# Altium footprint library PINPAD.PCBLIB: 151 footprints (part 10 of 10)
Each footprint in its own frame and in the unit in brackets; x right, y up, seen from the top. Pads: shape width x height; smd on the part's side, far side on the other; paste and mask are expansions set on the pad; w line width, h text height; cw(c..) or ccw(c..) is an arc to the next point about the centre after c.
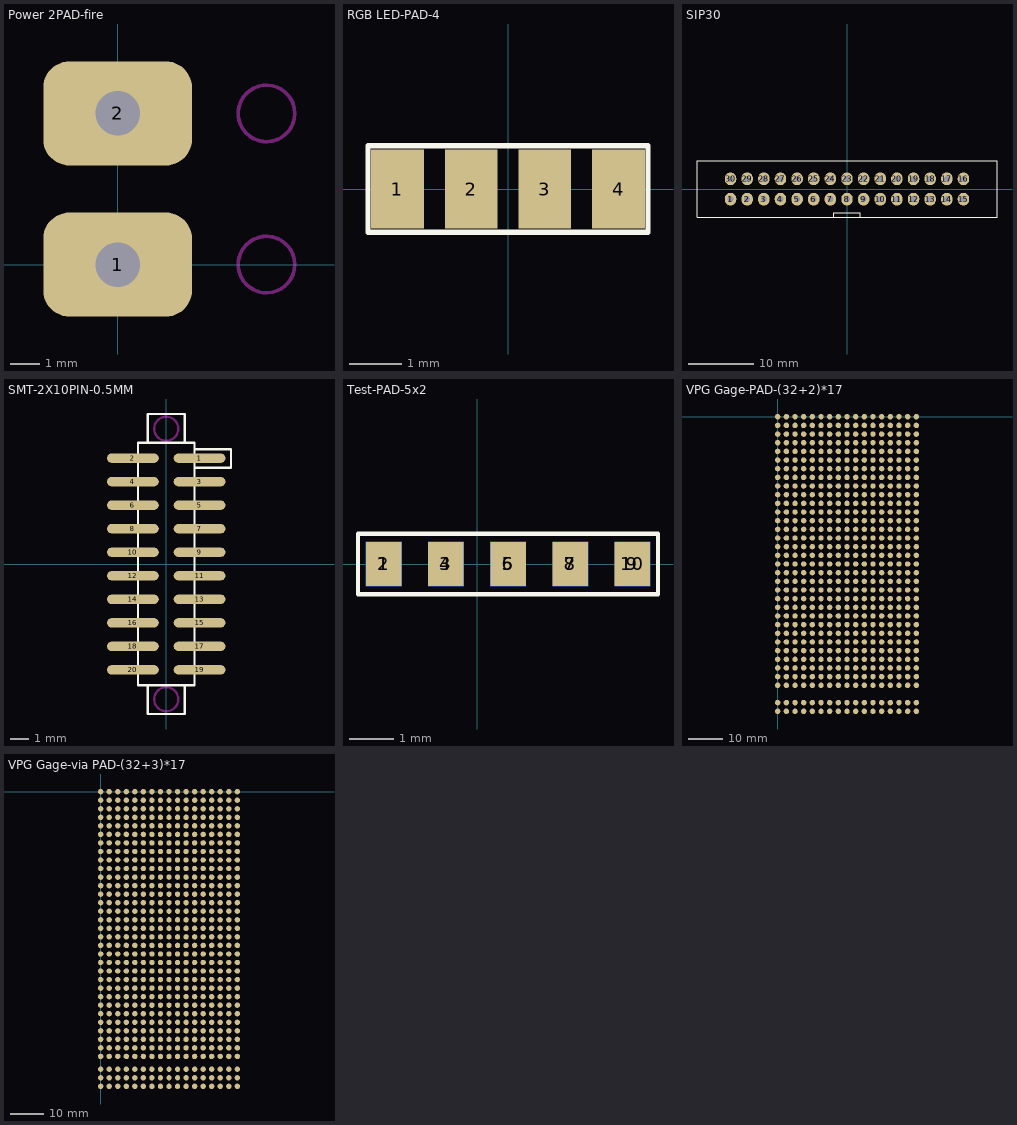
[diagram p9: the footprints below, top view; thin cyan lines are the x and y axes]

## Power 2PAD-fire [mm] "Power 2PAD-fire"
pads (2):
  rrect50% 5x3.5 hole 1.5: 1(0,0) 2(0,5.08)
KeepOutLayer:
  circle w0.127: c5,0 r0.95
  circle w0.127: c5,5.08 r0.95

## RGB LED-PAD-4 [mm] "RGB LED-PAD-4"
pads (4):
  rect 1x1.5 smd: 1(-2.1,0) 2(-0.7,0) 3(0.7,0) 4(2.1,0)
TopOverlay:
  lines w0.1: -2.66,-0.82 2.18,-0.82 2.66,-0.82 2.66,0.82 2.18,0.82 -2.66,0.82 -2.66,-0.82

## SIP30 [mm]
pads (30):
  oval 1.75x1.95 hole 0.9: 1(-17.78,-1.55) 2(-15.24,-1.55) 3(-12.7,-1.55) 4(-10.16,-1.55) 5(-7.62,-1.55) 6(-5.08,-1.55) 7(-2.54,-1.55) 8(0,-1.55) 9(2.54,-1.55) 10(5.08,-1.55) 11(7.62,-1.55) 12(10.16,-1.55) 13(12.7,-1.55) 14(15.24,-1.55) 15(17.78,-1.55) 16(17.78,1.55) 17(15.24,1.55) 18(12.7,1.55) 19(10.16,1.55) 20(7.62,1.55) 21(5.08,1.55) 22(2.54,1.55) 23(0,1.55) 24(-2.54,1.55) 25(-5.08,1.55) 26(-7.62,1.55) 27(-10.16,1.55) 28(-12.7,1.55) 29(-15.24,1.55) 30(-17.78,1.55)
TopOverlay:
  lines w0.127: -2,-4.35 -2,-3.6 2,-3.6 2,-4.35 ; -22.9,-4.35 22.9,-4.35 22.9,4.35 -22.9,4.35 -22.9,-4.35

## SMT-2X10PIN-0.5MM [mm]
pads (20):
  oval 2.8x0.5 smd: 1(1.8,5.715) 2(-1.8,5.715) 3(1.8,4.445) 4(-1.8,4.445) 5(1.8,3.175) 6(-1.8,3.175) 7(1.8,1.905) 8(-1.8,1.905) 9(1.8,0.635) 10(-1.8,0.635) 11(1.8,-0.635) 12(-1.8,-0.635) 13(1.8,-1.905) 14(-1.8,-1.905) 15(1.8,-3.175) 16(-1.8,-3.175) 17(1.8,-4.445) 18(-1.8,-4.445) 19(1.8,-5.715) 20(-1.8,-5.715)
TopOverlay:
  lines w0.127: -1,-6.54 -1,-8.1 1,-8.1 1,-6.54 ; -1,6.54 -1,8.1 1,8.1 1,6.54 ; 1.525,5.2 3.5,5.2 3.5,6.2 1.525,6.2 ; -1.525,-6.54 1.525,-6.54 1.525,6.54 -1.525,6.54 -1.525,-6.54
KeepOutLayer:
  circle w0.127: c0,7.305 r0.65
  circle w0.127: c0,-7.305 r0.65

## Test-PAD-5x2 [mm] "Test-PAD-5x2"
pads (10):
  rect 0.8x1 smd: 1(-2.1,0) 3(-0.7,0) 5(0.7,0) 7(2.1,0) 9(3.5,0)
  rect 0.8x1 smd far side: 2(-2.1,0) 4(-0.7,0) 6(0.7,0) 8(2.1,0) 10(3.5,0)
TopOverlay:
  lines w0.1: -2.68,-0.68 -2.68,0.68 4.075,0.68 4.075,-0.68 -2.68,-0.68

## VPG Gage-PAD-(32+2)*17 [mm] "VPG Gage-PAD-(32+2)*17"
pads (592):
  round 1.6 smd: 0(2.54,-86.36) 0(2.54,-83.82) 0(2.54,-78.74) 0(2.54,-76.2) 0(2.54,-76.2) 0(2.54,-73.66) 0(2.54,-71.12) 0(2.54,-68.58) 0(2.54,-66.04) 0(2.54,-63.5) 0(2.54,-60.96) 0(2.54,-58.42) 0(2.54,-55.88) 0(2.54,-53.34) 0(2.54,-50.8) 0(2.54,-48.26) 0(2.54,-45.72) 0(2.54,-43.18) 0(2.54,-40.64) 0(2.54,-38.1) 0(2.54,-35.56) 0(2.54,-33.02) 0(2.54,-30.48) 0(2.54,-27.94) 0(2.54,-25.4) 0(2.54,-22.86) 0(2.54,-20.32) 0(2.54,-17.78) 0(2.54,-15.24) 0(2.54,-12.7) 0(2.54,-10.16) 0(2.54,-7.62) 0(2.54,-5.08) 0(2.54,-2.54) 0(2.54,0) 0(5.08,-86.36) 0(5.08,-83.82) 0(5.08,-78.74) 0(5.08,-76.2) 0(5.08,-76.2) 0(5.08,-73.66) 0(5.08,-71.12) 0(5.08,-68.58) 0(5.08,-66.04) 0(5.08,-63.5) 0(5.08,-60.96) 0(5.08,-58.42) 0(5.08,-55.88) 0(5.08,-53.34) 0(5.08,-50.8) 0(5.08,-48.26) 0(5.08,-45.72) 0(5.08,-43.18) 0(5.08,-40.64) 0(5.08,-38.1) 0(5.08,-35.56) 0(5.08,-33.02) 0(5.08,-30.48) 0(5.08,-27.94) 0(5.08,-25.4) 0(5.08,-22.86) 0(5.08,-20.32) 0(5.08,-17.78) 0(5.08,-15.24) 0(5.08,-12.7) 0(5.08,-10.16) 0(5.08,-7.62) 0(5.08,-5.08) 0(5.08,-2.54) 0(5.08,0) 0(7.62,-86.36) 0(7.62,-83.82) 0(7.62,-78.74) 0(7.62,-76.2) 0(7.62,-76.2) 0(7.62,-73.66) 0(7.62,-71.12) 0(7.62,-68.58) 0(7.62,-66.04) 0(7.62,-63.5) 0(7.62,-60.96) 0(7.62,-58.42) 0(7.62,-55.88) 0(7.62,-53.34) 0(7.62,-50.8) 0(7.62,-48.26) 0(7.62,-45.72) 0(7.62,-43.18) 0(7.62,-40.64) 0(7.62,-38.1) 0(7.62,-35.56) 0(7.62,-33.02) 0(7.62,-30.48) 0(7.62,-27.94) 0(7.62,-25.4) 0(7.62,-22.86) 0(7.62,-20.32) 0(7.62,-17.78) 0(7.62,-15.24) 0(7.62,-12.7) 0(7.62,-10.16) 0(7.62,-7.62) 0(7.62,-5.08) 0(7.62,-2.54) 0(7.62,0) 0(10.16,-86.36) 0(10.16,-83.82) 0(10.16,-78.74) 0(10.16,-76.2) 0(10.16,-76.2) 0(10.16,-73.66) 0(10.16,-71.12) 0(10.16,-68.58) 0(10.16,-66.04) 0(10.16,-63.5) 0(10.16,-60.96) 0(10.16,-58.42) 0(10.16,-55.88) 0(10.16,-53.34) 0(10.16,-50.8) 0(10.16,-48.26) 0(10.16,-45.72) 0(10.16,-43.18) 0(10.16,-40.64) 0(10.16,-38.1) 0(10.16,-35.56) 0(10.16,-33.02) 0(10.16,-30.48) 0(10.16,-27.94) 0(10.16,-25.4) 0(10.16,-22.86) 0(10.16,-20.32) 0(10.16,-17.78) 0(10.16,-15.24) 0(10.16,-12.7) 0(10.16,-10.16) 0(10.16,-7.62) 0(10.16,-5.08) 0(10.16,-2.54) 0(10.16,0) 0(12.7,-86.36) 0(12.7,-83.82) 0(12.7,-78.74) 0(12.7,-76.2) 0(12.7,-76.2) 0(12.7,-73.66) 0(12.7,-71.12) 0(12.7,-68.58) 0(12.7,-66.04) 0(12.7,-63.5) 0(12.7,-60.96) 0(12.7,-58.42) 0(12.7,-55.88) 0(12.7,-53.34) 0(12.7,-50.8) 0(12.7,-48.26) 0(12.7,-45.72) 0(12.7,-43.18) 0(12.7,-40.64) 0(12.7,-38.1) 0(12.7,-35.56) 0(12.7,-33.02) 0(12.7,-30.48) 0(12.7,-27.94) 0(12.7,-25.4) 0(12.7,-22.86) 0(12.7,-20.32) 0(12.7,-17.78) 0(12.7,-15.24) 0(12.7,-12.7) 0(12.7,-10.16) 0(12.7,-7.62) 0(12.7,-5.08) 0(12.7,-2.54) 0(12.7,0) 0(15.24,-86.36) 0(15.24,-83.82) 0(15.24,-78.74) 0(15.24,-76.2) 0(15.24,-76.2) 0(15.24,-73.66) 0(15.24,-71.12) 0(15.24,-68.58) 0(15.24,-66.04) 0(15.24,-63.5) 0(15.24,-60.96) 0(15.24,-58.42) 0(15.24,-55.88) 0(15.24,-53.34) 0(15.24,-50.8) 0(15.24,-48.26) 0(15.24,-45.72) 0(15.24,-43.18) 0(15.24,-40.64) 0(15.24,-38.1) 0(15.24,-35.56) 0(15.24,-33.02) 0(15.24,-30.48) 0(15.24,-27.94) 0(15.24,-25.4) 0(15.24,-22.86) 0(15.24,-20.32) 0(15.24,-17.78) 0(15.24,-15.24) 0(15.24,-12.7) 0(15.24,-10.16) 0(15.24,-7.62) 0(15.24,-5.08) 0(15.24,-2.54) 0(15.24,0) 0(17.78,-86.36) 0(17.78,-83.82) 0(17.78,-78.74) 0(17.78,-76.2) 0(17.78,-76.2) 0(17.78,-73.66) 0(17.78,-71.12) 0(17.78,-68.58) 0(17.78,-66.04) 0(17.78,-63.5) 0(17.78,-60.96) 0(17.78,-58.42) 0(17.78,-55.88) 0(17.78,-53.34) 0(17.78,-50.8) 0(17.78,-48.26) 0(17.78,-45.72) 0(17.78,-43.18) 0(17.78,-40.64) 0(17.78,-38.1) 0(17.78,-35.56) 0(17.78,-33.02) 0(17.78,-30.48) 0(17.78,-27.94) 0(17.78,-25.4) 0(17.78,-22.86) 0(17.78,-20.32) 0(17.78,-17.78) 0(17.78,-15.24) 0(17.78,-12.7) 0(17.78,-10.16) 0(17.78,-7.62) 0(17.78,-5.08) 0(17.78,-2.54) 0(17.78,0) 0(20.32,-86.36) 0(20.32,-83.82) 0(20.32,-78.74) 0(20.32,-76.2) 0(20.32,-76.2) 0(20.32,-73.66) 0(20.32,-71.12) 0(20.32,-68.58) 0(20.32,-66.04) 0(20.32,-63.5) 0(20.32,-60.96) 0(20.32,-58.42) 0(20.32,-55.88) 0(20.32,-53.34) 0(20.32,-50.8) 0(20.32,-48.26) 0(20.32,-45.72) 0(20.32,-43.18) 0(20.32,-40.64) 0(20.32,-38.1) 0(20.32,-35.56) 0(20.32,-33.02) 0(20.32,-30.48) 0(20.32,-27.94) 0(20.32,-25.4) 0(20.32,-22.86) 0(20.32,-20.32) 0(20.32,-17.78) 0(20.32,-15.24) 0(20.32,-12.7) 0(20.32,-10.16) 0(20.32,-7.62) 0(20.32,-5.08) 0(20.32,-2.54) 0(20.32,0) 0(22.86,-86.36) 0(22.86,-83.82) 0(22.86,-78.74) 0(22.86,-76.2) 0(22.86,-76.2) 0(22.86,-73.66) 0(22.86,-71.12) 0(22.86,-68.58) 0(22.86,-66.04) 0(22.86,-63.5) 0(22.86,-60.96) 0(22.86,-58.42) 0(22.86,-55.88) 0(22.86,-53.34) 0(22.86,-50.8) 0(22.86,-48.26) 0(22.86,-45.72) 0(22.86,-43.18) 0(22.86,-40.64) 0(22.86,-38.1) 0(22.86,-35.56) 0(22.86,-33.02) 0(22.86,-30.48) 0(22.86,-27.94) 0(22.86,-25.4) 0(22.86,-22.86) 0(22.86,-20.32) 0(22.86,-17.78) 0(22.86,-15.24) 0(22.86,-12.7) 0(22.86,-10.16) 0(22.86,-7.62) 0(22.86,-5.08) 0(22.86,-2.54) 0(22.86,0) 0(25.4,-86.36) 0(25.4,-83.82) 0(25.4,-78.74) 0(25.4,-76.2) 0(25.4,-76.2) 0(25.4,-73.66) 0(25.4,-71.12) 0(25.4,-68.58) 0(25.4,-66.04) 0(25.4,-63.5) 0(25.4,-60.96) 0(25.4,-58.42) 0(25.4,-55.88) 0(25.4,-53.34) 0(25.4,-50.8) 0(25.4,-48.26) 0(25.4,-45.72) 0(25.4,-43.18) 0(25.4,-40.64) 0(25.4,-38.1) 0(25.4,-35.56) 0(25.4,-33.02) 0(25.4,-30.48) 0(25.4,-27.94) 0(25.4,-25.4) 0(25.4,-22.86) 0(25.4,-20.32) 0(25.4,-17.78) 0(25.4,-15.24) 0(25.4,-12.7) 0(25.4,-10.16) 0(25.4,-7.62) 0(25.4,-5.08) 0(25.4,-2.54) 0(25.4,0) 0(27.94,-86.36) 0(27.94,-83.82) 0(27.94,-78.74) 0(27.94,-76.2) 0(27.94,-76.2) 0(27.94,-73.66) 0(27.94,-71.12) 0(27.94,-68.58) 0(27.94,-66.04) 0(27.94,-63.5) 0(27.94,-60.96) 0(27.94,-58.42) 0(27.94,-55.88) 0(27.94,-53.34) 0(27.94,-50.8) 0(27.94,-48.26) 0(27.94,-45.72) 0(27.94,-43.18) 0(27.94,-40.64) 0(27.94,-38.1) 0(27.94,-35.56) 0(27.94,-33.02) 0(27.94,-30.48) 0(27.94,-27.94) 0(27.94,-25.4) 0(27.94,-22.86) 0(27.94,-20.32) 0(27.94,-17.78) 0(27.94,-15.24) 0(27.94,-12.7) 0(27.94,-10.16) 0(27.94,-7.62) 0(27.94,-5.08) 0(27.94,-2.54) 0(27.94,0) 0(30.48,-86.36) 0(30.48,-83.82) 0(30.48,-78.74) 0(30.48,-76.2) 0(30.48,-76.2) 0(30.48,-73.66) 0(30.48,-71.12) 0(30.48,-68.58) 0(30.48,-66.04) 0(30.48,-63.5) 0(30.48,-60.96) 0(30.48,-58.42) 0(30.48,-55.88) 0(30.48,-53.34) 0(30.48,-50.8) 0(30.48,-48.26) 0(30.48,-45.72) 0(30.48,-43.18) 0(30.48,-40.64) 0(30.48,-38.1) 0(30.48,-35.56) 0(30.48,-33.02) 0(30.48,-30.48) 0(30.48,-27.94) 0(30.48,-25.4) 0(30.48,-22.86) 0(30.48,-20.32) 0(30.48,-17.78) 0(30.48,-15.24) 0(30.48,-12.7) 0(30.48,-10.16) 0(30.48,-7.62) 0(30.48,-5.08) 0(30.48,-2.54) 0(30.48,0) 0(33.02,-86.36) 0(33.02,-83.82) 0(33.02,-78.74) 0(33.02,-76.2) 0(33.02,-76.2) 0(33.02,-73.66) 0(33.02,-71.12) 0(33.02,-68.58) 0(33.02,-66.04) 0(33.02,-63.5) 0(33.02,-60.96) 0(33.02,-58.42) 0(33.02,-55.88) 0(33.02,-53.34) 0(33.02,-50.8) 0(33.02,-48.26) 0(33.02,-45.72) 0(33.02,-43.18) 0(33.02,-40.64) 0(33.02,-38.1) 0(33.02,-35.56) 0(33.02,-33.02) 0(33.02,-30.48) 0(33.02,-27.94) 0(33.02,-25.4) 0(33.02,-22.86) 0(33.02,-20.32) 0(33.02,-17.78) 0(33.02,-15.24) 0(33.02,-12.7) 0(33.02,-10.16) 0(33.02,-7.62) 0(33.02,-5.08) 0(33.02,-2.54) 0(33.02,0) 0(35.56,-86.36) 0(35.56,-83.82) 0(35.56,-78.74) 0(35.56,-76.2) 0(35.56,-76.2) 0(35.56,-73.66) 0(35.56,-71.12) 0(35.56,-68.58) 0(35.56,-66.04) 0(35.56,-63.5) 0(35.56,-60.96) 0(35.56,-58.42) 0(35.56,-55.88) 0(35.56,-53.34) 0(35.56,-50.8) 0(35.56,-48.26) 0(35.56,-45.72) 0(35.56,-43.18) 0(35.56,-40.64) 0(35.56,-38.1) 0(35.56,-35.56) 0(35.56,-33.02) 0(35.56,-30.48) 0(35.56,-27.94) 0(35.56,-25.4) 0(35.56,-22.86) 0(35.56,-20.32) 0(35.56,-17.78) 0(35.56,-15.24) 0(35.56,-12.7) 0(35.56,-10.16) 0(35.56,-7.62) 0(35.56,-5.08) 0(35.56,-2.54) 0(35.56,0) 0(38.1,-86.36) 0(38.1,-83.82) 0(38.1,-78.74) 0(38.1,-76.2) 0(38.1,-73.66) 0(38.1,-71.12) 0(38.1,-68.58) 0(38.1,-66.04) 0(38.1,-63.5) 0(38.1,-60.96) 0(38.1,-58.42) 0(38.1,-55.88) 0(38.1,-53.34) 0(38.1,-50.8) 0(38.1,-48.26) 0(38.1,-45.72) 0(38.1,-43.18) 0(38.1,-40.64) 0(38.1,-38.1) 0(38.1,-35.56) 0(38.1,-33.02) 0(38.1,-30.48) 0(38.1,-27.94) 0(38.1,-25.4) 0(38.1,-22.86) 0(38.1,-20.32) 0(38.1,-17.78) 0(38.1,-15.24) 0(38.1,-12.7) 0(38.1,-10.16) 0(38.1,-7.62) 0(38.1,-5.08) 0(38.1,-2.54) 0(38.1,0) 1(0,0) 2(0,-2.54) 3(0,-5.08) 4(0,-7.62) 5(0,-10.16) 6(0,-12.7) 7(0,-15.24) 8(0,-17.78) 9(0,-20.32) 10(0,-22.86) 11(0,-25.4) 12(0,-27.94) 13(0,-30.48) 14(0,-33.02) 15(0,-35.56) 16(0,-38.1) 17(0,-40.64) 17(40.64,-86.36) 17(40.64,-83.82) 17(40.64,-78.74) 17(40.64,-76.2) 17(40.64,-73.66) 17(40.64,-71.12) 17(40.64,-68.58) 17(40.64,-66.04) 17(40.64,-63.5) 17(40.64,-60.96) 17(40.64,-58.42) 17(40.64,-55.88) 17(40.64,-53.34) 17(40.64,-50.8) 17(40.64,-48.26) 17(40.64,-45.72) 17(40.64,-43.18) 17(40.64,-40.64) 17(40.64,-38.1) 17(40.64,-35.56) 17(40.64,-33.02) 17(40.64,-30.48) 17(40.64,-27.94) 17(40.64,-25.4) 17(40.64,-22.86) 17(40.64,-20.32) 17(40.64,-17.78) 17(40.64,-15.24) 17(40.64,-12.7) 17(40.64,-10.16) 17(40.64,-7.62) 17(40.64,-5.08) 17(40.64,-2.54) 17(40.64,0) 18(0,-43.18) 19(0,-45.72) 20(0,-48.26) 21(0,-50.8) 22(0,-53.34) 23(0,-55.88) 24(0,-58.42) 25(0,-60.96) 26(0,-63.5) 27(0,-66.04) 28(0,-68.58) 29(0,-71.12) 30(0,-73.66) 31(0,-76.2) 32(0,-78.74) 33(0,-83.82) 34(0,-86.36)

## VPG Gage-via PAD-(32+3)*17 [mm] "VPG Gage-via PAD-(32+3)*17"
pads (609):
  round 1.6 smd: 0(2.54,-87.63) 0(2.54,-85.09) 0(2.54,-82.55) 0(2.54,-78.74) 0(2.54,-76.2) 0(2.54,-76.2) 0(2.54,-73.66) 0(2.54,-71.12) 0(2.54,-68.58) 0(2.54,-66.04) 0(2.54,-63.5) 0(2.54,-60.96) 0(2.54,-58.42) 0(2.54,-55.88) 0(2.54,-53.34) 0(2.54,-50.8) 0(2.54,-48.26) 0(2.54,-45.72) 0(2.54,-43.18) 0(2.54,-40.64) 0(2.54,-38.1) 0(2.54,-35.56) 0(2.54,-33.02) 0(2.54,-30.48) 0(2.54,-27.94) 0(2.54,-25.4) 0(2.54,-22.86) 0(2.54,-20.32) 0(2.54,-17.78) 0(2.54,-15.24) 0(2.54,-12.7) 0(2.54,-10.16) 0(2.54,-7.62) 0(2.54,-5.08) 0(2.54,-2.54) 0(2.54,0) 0(5.08,-87.63) 0(5.08,-85.09) 0(5.08,-82.55) 0(5.08,-78.74) 0(5.08,-76.2) 0(5.08,-76.2) 0(5.08,-73.66) 0(5.08,-71.12) 0(5.08,-68.58) 0(5.08,-66.04) 0(5.08,-63.5) 0(5.08,-60.96) 0(5.08,-58.42) 0(5.08,-55.88) 0(5.08,-53.34) 0(5.08,-50.8) 0(5.08,-48.26) 0(5.08,-45.72) 0(5.08,-43.18) 0(5.08,-40.64) 0(5.08,-38.1) 0(5.08,-35.56) 0(5.08,-33.02) 0(5.08,-30.48) 0(5.08,-27.94) 0(5.08,-25.4) 0(5.08,-22.86) 0(5.08,-20.32) 0(5.08,-17.78) 0(5.08,-15.24) 0(5.08,-12.7) 0(5.08,-10.16) 0(5.08,-7.62) 0(5.08,-5.08) 0(5.08,-2.54) 0(5.08,0) 0(7.62,-87.63) 0(7.62,-85.09) 0(7.62,-82.55) 0(7.62,-78.74) 0(7.62,-76.2) 0(7.62,-76.2) 0(7.62,-73.66) 0(7.62,-71.12) 0(7.62,-68.58) 0(7.62,-66.04) 0(7.62,-63.5) 0(7.62,-60.96) 0(7.62,-58.42) 0(7.62,-55.88) 0(7.62,-53.34) 0(7.62,-50.8) 0(7.62,-48.26) 0(7.62,-45.72) 0(7.62,-43.18) 0(7.62,-40.64) 0(7.62,-38.1) 0(7.62,-35.56) 0(7.62,-33.02) 0(7.62,-30.48) 0(7.62,-27.94) 0(7.62,-25.4) 0(7.62,-22.86) 0(7.62,-20.32) 0(7.62,-17.78) 0(7.62,-15.24) 0(7.62,-12.7) 0(7.62,-10.16) 0(7.62,-7.62) 0(7.62,-5.08) 0(7.62,-2.54) 0(7.62,0) 0(10.16,-87.63) 0(10.16,-85.09) 0(10.16,-82.55) 0(10.16,-78.74) 0(10.16,-76.2) 0(10.16,-76.2) 0(10.16,-73.66) 0(10.16,-71.12) 0(10.16,-68.58) 0(10.16,-66.04) 0(10.16,-63.5) 0(10.16,-60.96) 0(10.16,-58.42) 0(10.16,-55.88) 0(10.16,-53.34) 0(10.16,-50.8) 0(10.16,-48.26) 0(10.16,-45.72) 0(10.16,-43.18) 0(10.16,-40.64) 0(10.16,-38.1) 0(10.16,-35.56) 0(10.16,-33.02) 0(10.16,-30.48) 0(10.16,-27.94) 0(10.16,-25.4) 0(10.16,-22.86) 0(10.16,-20.32) 0(10.16,-17.78) 0(10.16,-15.24) 0(10.16,-12.7) 0(10.16,-10.16) 0(10.16,-7.62) 0(10.16,-5.08) 0(10.16,-2.54) 0(10.16,0) 0(12.7,-87.63) 0(12.7,-85.09) 0(12.7,-82.55) 0(12.7,-78.74) 0(12.7,-76.2) 0(12.7,-76.2) 0(12.7,-73.66) 0(12.7,-71.12) 0(12.7,-68.58) 0(12.7,-66.04) 0(12.7,-63.5) 0(12.7,-60.96) 0(12.7,-58.42) 0(12.7,-55.88) 0(12.7,-53.34) 0(12.7,-50.8) 0(12.7,-48.26) 0(12.7,-45.72) 0(12.7,-43.18) 0(12.7,-40.64) 0(12.7,-38.1) 0(12.7,-35.56) 0(12.7,-33.02) 0(12.7,-30.48) 0(12.7,-27.94) 0(12.7,-25.4) 0(12.7,-22.86) 0(12.7,-20.32) 0(12.7,-17.78) 0(12.7,-15.24) 0(12.7,-12.7) 0(12.7,-10.16) 0(12.7,-7.62) 0(12.7,-5.08) 0(12.7,-2.54) 0(12.7,0) 0(15.24,-87.63) 0(15.24,-85.09) 0(15.24,-82.55) 0(15.24,-78.74) 0(15.24,-76.2) 0(15.24,-76.2) 0(15.24,-73.66) 0(15.24,-71.12) 0(15.24,-68.58) 0(15.24,-66.04) 0(15.24,-63.5) 0(15.24,-60.96) 0(15.24,-58.42) 0(15.24,-55.88) 0(15.24,-53.34) 0(15.24,-50.8) 0(15.24,-48.26) 0(15.24,-45.72) 0(15.24,-43.18) 0(15.24,-40.64) 0(15.24,-38.1) 0(15.24,-35.56) 0(15.24,-33.02) 0(15.24,-30.48) 0(15.24,-27.94) 0(15.24,-25.4) 0(15.24,-22.86) 0(15.24,-20.32) 0(15.24,-17.78) 0(15.24,-15.24) 0(15.24,-12.7) 0(15.24,-10.16) 0(15.24,-7.62) 0(15.24,-5.08) 0(15.24,-2.54) 0(15.24,0) 0(17.78,-87.63) 0(17.78,-85.09) 0(17.78,-82.55) 0(17.78,-78.74) 0(17.78,-76.2) 0(17.78,-76.2) 0(17.78,-73.66) 0(17.78,-71.12) 0(17.78,-68.58) 0(17.78,-66.04) 0(17.78,-63.5) 0(17.78,-60.96) 0(17.78,-58.42) 0(17.78,-55.88) 0(17.78,-53.34) 0(17.78,-50.8) 0(17.78,-48.26) 0(17.78,-45.72) 0(17.78,-43.18) 0(17.78,-40.64) 0(17.78,-38.1) 0(17.78,-35.56) 0(17.78,-33.02) 0(17.78,-30.48) 0(17.78,-27.94) 0(17.78,-25.4) 0(17.78,-22.86) 0(17.78,-20.32) 0(17.78,-17.78) 0(17.78,-15.24) 0(17.78,-12.7) 0(17.78,-10.16) 0(17.78,-7.62) 0(17.78,-5.08) 0(17.78,-2.54) 0(17.78,0) 0(20.32,-87.63) 0(20.32,-85.09) 0(20.32,-82.55) 0(20.32,-78.74) 0(20.32,-76.2) 0(20.32,-76.2) 0(20.32,-73.66) 0(20.32,-71.12) 0(20.32,-68.58) 0(20.32,-66.04) 0(20.32,-63.5) 0(20.32,-60.96) 0(20.32,-58.42) 0(20.32,-55.88) 0(20.32,-53.34) 0(20.32,-50.8) 0(20.32,-48.26) 0(20.32,-45.72) 0(20.32,-43.18) 0(20.32,-40.64) 0(20.32,-38.1) 0(20.32,-35.56) 0(20.32,-33.02) 0(20.32,-30.48) 0(20.32,-27.94) 0(20.32,-25.4) 0(20.32,-22.86) 0(20.32,-20.32) 0(20.32,-17.78) 0(20.32,-15.24) 0(20.32,-12.7) 0(20.32,-10.16) 0(20.32,-7.62) 0(20.32,-5.08) 0(20.32,-2.54) 0(20.32,0) 0(22.86,-87.63) 0(22.86,-85.09) 0(22.86,-82.55) 0(22.86,-78.74) 0(22.86,-76.2) 0(22.86,-76.2) 0(22.86,-73.66) 0(22.86,-71.12) 0(22.86,-68.58) 0(22.86,-66.04) 0(22.86,-63.5) 0(22.86,-60.96) 0(22.86,-58.42) 0(22.86,-55.88) 0(22.86,-53.34) 0(22.86,-50.8) 0(22.86,-48.26) 0(22.86,-45.72) 0(22.86,-43.18) 0(22.86,-40.64) 0(22.86,-38.1) 0(22.86,-35.56) 0(22.86,-33.02) 0(22.86,-30.48) 0(22.86,-27.94) 0(22.86,-25.4) 0(22.86,-22.86) 0(22.86,-20.32) 0(22.86,-17.78) 0(22.86,-15.24) 0(22.86,-12.7) 0(22.86,-10.16) 0(22.86,-7.62) 0(22.86,-5.08) 0(22.86,-2.54) 0(22.86,0) 0(25.4,-87.63) 0(25.4,-85.09) 0(25.4,-82.55) 0(25.4,-78.74) 0(25.4,-76.2) 0(25.4,-76.2) 0(25.4,-73.66) 0(25.4,-71.12) 0(25.4,-68.58) 0(25.4,-66.04) 0(25.4,-63.5) 0(25.4,-60.96) 0(25.4,-58.42) 0(25.4,-55.88) 0(25.4,-53.34) 0(25.4,-50.8) 0(25.4,-48.26) 0(25.4,-45.72) 0(25.4,-43.18) 0(25.4,-40.64) 0(25.4,-38.1) 0(25.4,-35.56) 0(25.4,-33.02) 0(25.4,-30.48) 0(25.4,-27.94) 0(25.4,-25.4) 0(25.4,-22.86) 0(25.4,-20.32) 0(25.4,-17.78) 0(25.4,-15.24) 0(25.4,-12.7) 0(25.4,-10.16) 0(25.4,-7.62) 0(25.4,-5.08) 0(25.4,-2.54) 0(25.4,0) 0(27.94,-87.63) 0(27.94,-85.09) 0(27.94,-82.55) 0(27.94,-78.74) 0(27.94,-76.2) 0(27.94,-76.2) 0(27.94,-73.66) 0(27.94,-71.12) 0(27.94,-68.58) 0(27.94,-66.04) 0(27.94,-63.5) 0(27.94,-60.96) 0(27.94,-58.42) 0(27.94,-55.88) 0(27.94,-53.34) 0(27.94,-50.8) 0(27.94,-48.26) 0(27.94,-45.72) 0(27.94,-43.18) 0(27.94,-40.64) 0(27.94,-38.1) 0(27.94,-35.56) 0(27.94,-33.02) 0(27.94,-30.48) 0(27.94,-27.94) 0(27.94,-25.4) 0(27.94,-22.86) 0(27.94,-20.32) 0(27.94,-17.78) 0(27.94,-15.24) 0(27.94,-12.7) 0(27.94,-10.16) 0(27.94,-7.62) 0(27.94,-5.08) 0(27.94,-2.54) 0(27.94,0) 0(30.48,-87.63) 0(30.48,-85.09) 0(30.48,-82.55) 0(30.48,-78.74) 0(30.48,-76.2) 0(30.48,-76.2) 0(30.48,-73.66) 0(30.48,-71.12) 0(30.48,-68.58) 0(30.48,-66.04) 0(30.48,-63.5) 0(30.48,-60.96) 0(30.48,-58.42) 0(30.48,-55.88) 0(30.48,-53.34) 0(30.48,-50.8) 0(30.48,-48.26) 0(30.48,-45.72) 0(30.48,-43.18) 0(30.48,-40.64) 0(30.48,-38.1) 0(30.48,-35.56) 0(30.48,-33.02) 0(30.48,-30.48) 0(30.48,-27.94) 0(30.48,-25.4) 0(30.48,-22.86) 0(30.48,-20.32) 0(30.48,-17.78) 0(30.48,-15.24) 0(30.48,-12.7) 0(30.48,-10.16) 0(30.48,-7.62) 0(30.48,-5.08) 0(30.48,-2.54) 0(30.48,0) 0(33.02,-87.63) 0(33.02,-85.09) 0(33.02,-82.55) 0(33.02,-78.74) 0(33.02,-76.2) 0(33.02,-76.2) 0(33.02,-73.66) 0(33.02,-71.12) 0(33.02,-68.58) 0(33.02,-66.04) 0(33.02,-63.5) 0(33.02,-60.96) 0(33.02,-58.42) 0(33.02,-55.88) 0(33.02,-53.34) 0(33.02,-50.8) 0(33.02,-48.26) 0(33.02,-45.72) 0(33.02,-43.18) 0(33.02,-40.64) 0(33.02,-38.1) 0(33.02,-35.56) 0(33.02,-33.02) 0(33.02,-30.48) 0(33.02,-27.94) 0(33.02,-25.4) 0(33.02,-22.86) 0(33.02,-20.32) 0(33.02,-17.78) 0(33.02,-15.24) 0(33.02,-12.7) 0(33.02,-10.16) 0(33.02,-7.62) 0(33.02,-5.08) 0(33.02,-2.54) 0(33.02,0) 0(35.56,-87.63) 0(35.56,-85.09) 0(35.56,-82.55) 0(35.56,-78.74) 0(35.56,-76.2) 0(35.56,-76.2) 0(35.56,-73.66) 0(35.56,-71.12) 0(35.56,-68.58) 0(35.56,-66.04) 0(35.56,-63.5) 0(35.56,-60.96) 0(35.56,-58.42) 0(35.56,-55.88) 0(35.56,-53.34) 0(35.56,-50.8) 0(35.56,-48.26) 0(35.56,-45.72) 0(35.56,-43.18) 0(35.56,-40.64) 0(35.56,-38.1) 0(35.56,-35.56) 0(35.56,-33.02) 0(35.56,-30.48) 0(35.56,-27.94) 0(35.56,-25.4) 0(35.56,-22.86) 0(35.56,-20.32) 0(35.56,-17.78) 0(35.56,-15.24) 0(35.56,-12.7) 0(35.56,-10.16) 0(35.56,-7.62) 0(35.56,-5.08) 0(35.56,-2.54) 0(35.56,0) 0(38.1,-87.63) 0(38.1,-85.09) 0(38.1,-82.55) 0(38.1,-78.74) 0(38.1,-76.2) 0(38.1,-73.66) 0(38.1,-71.12) 0(38.1,-68.58) 0(38.1,-66.04) 0(38.1,-63.5) 0(38.1,-60.96) 0(38.1,-58.42) 0(38.1,-55.88) 0(38.1,-53.34) 0(38.1,-50.8) 0(38.1,-48.26) 0(38.1,-45.72) 0(38.1,-43.18) 0(38.1,-40.64) 0(38.1,-38.1) 0(38.1,-35.56) 0(38.1,-33.02) 0(38.1,-30.48) 0(38.1,-27.94) 0(38.1,-25.4) 0(38.1,-22.86) 0(38.1,-20.32) 0(38.1,-17.78) 0(38.1,-15.24) 0(38.1,-12.7) 0(38.1,-10.16) 0(38.1,-7.62) 0(38.1,-5.08) 0(38.1,-2.54) 0(38.1,0) 1(0,0) 2(0,-2.54) 3(0,-5.08) 4(0,-7.62) 5(0,-10.16) 6(0,-12.7) 7(0,-15.24) 8(0,-17.78) 9(0,-20.32) 10(0,-22.86) 11(0,-25.4) 12(0,-27.94) 13(0,-30.48) 14(0,-33.02) 15(0,-35.56) 16(0,-38.1) 17(0,-40.64) 17(40.64,-87.63) 17(40.64,-85.09) 17(40.64,-82.55) 17(40.64,-78.74) 17(40.64,-76.2) 17(40.64,-73.66) 17(40.64,-71.12) 17(40.64,-68.58) 17(40.64,-66.04) 17(40.64,-63.5) 17(40.64,-60.96) 17(40.64,-58.42) 17(40.64,-55.88) 17(40.64,-53.34) 17(40.64,-50.8) 17(40.64,-48.26) 17(40.64,-45.72) 17(40.64,-43.18) 17(40.64,-40.64) 17(40.64,-38.1) 17(40.64,-35.56) 17(40.64,-33.02) 17(40.64,-30.48) 17(40.64,-27.94) 17(40.64,-25.4) 17(40.64,-22.86) 17(40.64,-20.32) 17(40.64,-17.78) 17(40.64,-15.24) 17(40.64,-12.7) 17(40.64,-10.16) 17(40.64,-7.62) 17(40.64,-5.08) 17(40.64,-2.54) 17(40.64,0) 18(0,-43.18) 19(0,-45.72) 20(0,-48.26) 21(0,-50.8) 22(0,-53.34) 23(0,-55.88) 24(0,-58.42) 25(0,-60.96) 26(0,-63.5) 27(0,-66.04) 28(0,-68.58) 29(0,-71.12) 30(0,-73.66) 31(0,-76.2) 32(0,-78.74) 33(0,-82.55) 34(0,-85.09) 35(0,-87.63)